# Altium schematic symbol library kmilo17pet-NSC_Amplifier.SchLib: 1665 symbols (part 2 of 44)
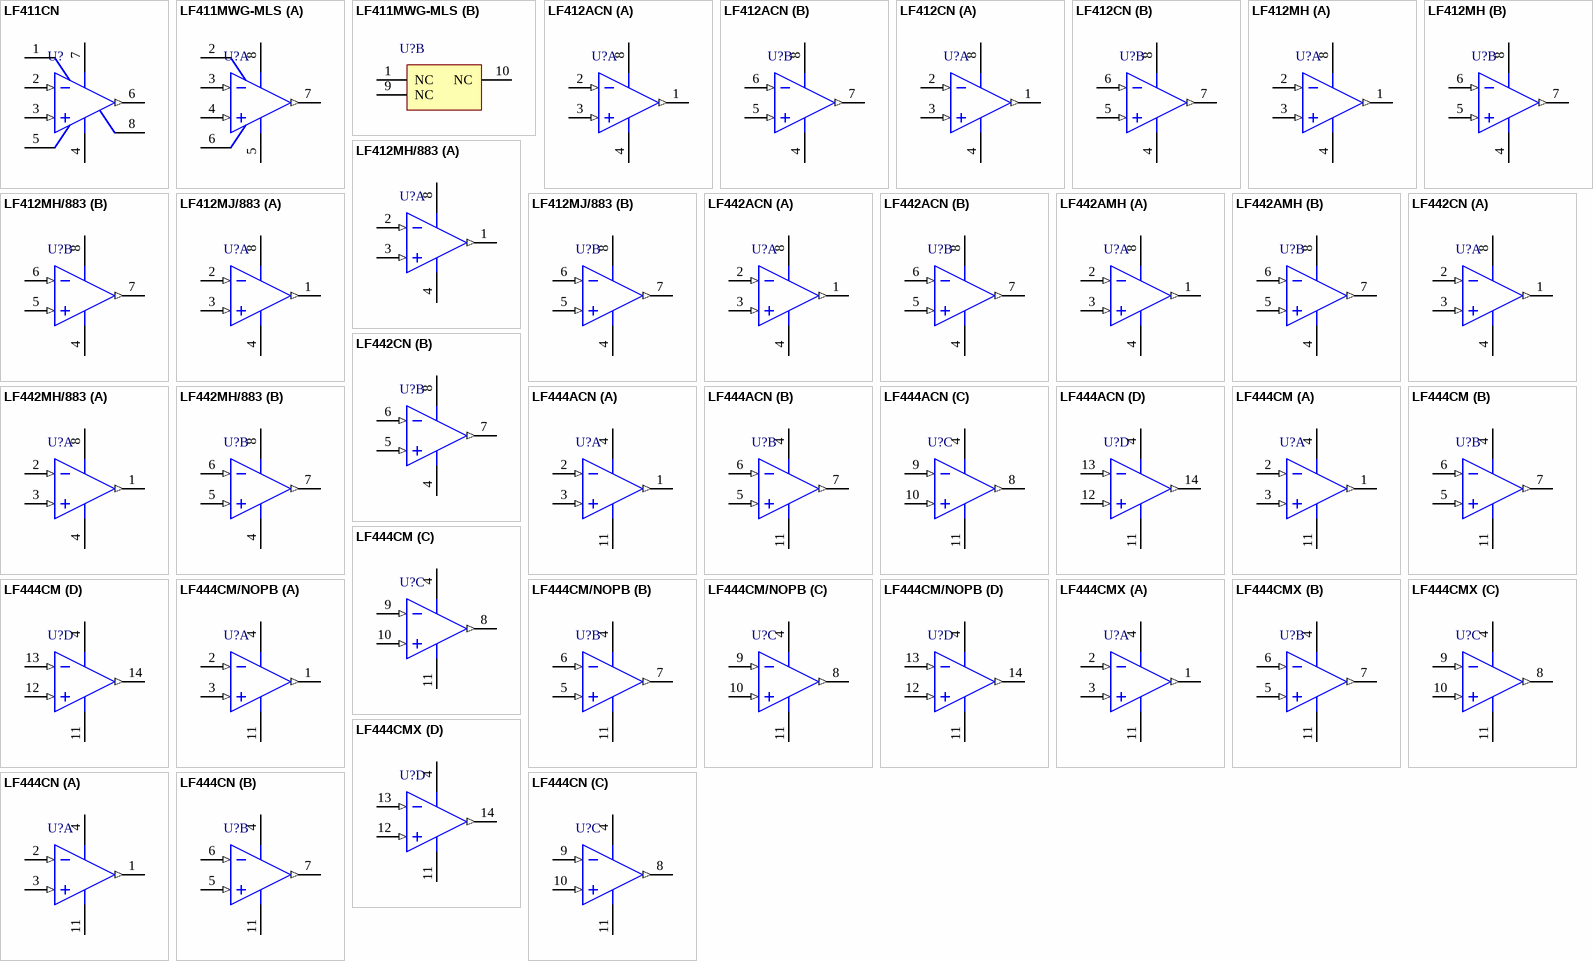
[diagram p85: symbols LF411CN to LF444CN]

## LF442ACN
designator U?
Dual Low Power JFET Input Operational Amplifier, 8-pin MDIP; PartNumber: LF442ACN; Manufacturer: National Semiconductor; PackageTopMarking: NSUZXYTTE#*LF*442ACN; PowerWise: N; CompType: Amplifiers; High-Reliability: Y; DatasheetVersion: Aug-2000; PackageVersion: revG, May-2006; PackageReference: N08E; PackageDescription: MDIP, .365 x .250 x .130in, 8 Lead, .100in Pitch; RoHS: N; PinCount: 8; Code_JEDEC: MS-001-BA; ComponentLink1Description: Manufacturer URL; ComponentLink1URL: http://www.national.com/; ComponentLink2Description: LF442 Datasheet; ComponentLink2URL: http://www.national.com/ds/LF/LF442.pdf; ComponentLink3Description: LF442 Web Page; ComponentLink3URL: http://www.national.com/pf/LF/LF442.html; ComponentLink4Description: N08E Package Page; ComponentLink4URL: http://www.national.com/packaging/folders/n08e.html
footprint N08E (DIP, 8-Leads, Row Spacing 7.62mm, Pitch 2.54mm, Body 9.91x6.35mm)
pins on every part: 4 V- (power), 8 V+ (power)
part A pins: 1 OUTA (out), 2 INA- (in), 3 INA+ (in)
part B pins: 5 INB+ (in), 6 INB- (in), 7 OUTB (out)

## LF442AMH
designator U?
Dual Low Power JFET Input Operational Amplifier, 8-pin TO-99; PartNumber: LF442AMH; Manufacturer: National Semiconductor; PackageTopMarking: NSZXYTTE# LF442AMH; PowerWise: N; CompType: Amplifiers; High-Reliability: Y; DatasheetVersion: Aug-2000; PackageVersion: revF, Jun-1995; PackageReference: H08C; PackageDescription: Metal Can, TO-99, 8 Lead, .200 Dia., P.C.; RoHS: N; PinCount: 8; Code_JEDEC: TO-99; ComponentLink1Description: Manufacturer URL; ComponentLink1URL: http://www.national.com/; ComponentLink2Description: LF442 Datasheet; ComponentLink2URL: http://www.national.com/ds/LF/LF442.pdf; ComponentLink3Description: LF442 Web Page; ComponentLink3URL: http://www.national.com/pf/LF/LF442.html; ComponentLink4Description: H08C Package Page; ComponentLink4URL: http://www.national.com/packaging/folders/h08c.html
footprint H08C (Can; 8 Leads; Pin Circle Dia. 5.08 mm; Lead Dia. 0.48 mm (max))
pins on every part: 4 V- (power), 8 V+ (power)
part A pins: 1 OUTA (out), 2 INA- (in), 3 INA+ (in)
part B pins: 5 INB+ (in), 6 INB- (in), 7 OUTB (out)

## LF442CN
designator U?
Dual Low Power JFET Input Operational Amplifier, 8-pin MDIP; PartNumber: LF442CN; Manufacturer: National Semiconductor; PackageTopMarking: NSUZXYTTE#*LF*442CN; PowerWise: N; CompType: Amplifiers; High-Reliability: Y; DatasheetVersion: Aug-2000; PackageVersion: revG, May-2006; PackageReference: N08E; PackageDescription: MDIP, .365 x .250 x .130in, 8 Lead, .100in Pitch; RoHS: N; PinCount: 8; Code_JEDEC: MS-001-BA; ComponentLink1Description: Manufacturer URL; ComponentLink1URL: http://www.national.com/; ComponentLink2Description: LF442 Datasheet; ComponentLink2URL: http://www.national.com/ds/LF/LF442.pdf; ComponentLink3Description: LF442 Web Page; ComponentLink3URL: http://www.national.com/pf/LF/LF442.html; ComponentLink4Description: N08E Package Page; ComponentLink4URL: http://www.national.com/packaging/folders/n08e.html
footprint N08E (DIP, 8-Leads, Row Spacing 7.62mm, Pitch 2.54mm, Body 9.91x6.35mm)
pins on every part: 4 V- (power), 8 V+ (power)
part A pins: 1 OUTA (out), 2 INA- (in), 3 INA+ (in)
part B pins: 5 INB+ (in), 6 INB- (in), 7 OUTB (out)

## LF442MH/883
designator U?
Dual Low Power JFET Input Operational Amplifier, 8-pin TO-99; PartNumber: LF442MH/883; Manufacturer: National Semiconductor; PackageTopMarking: NSZSSXXYYA LF442MH/883 Q*5962-9763301QGA; PowerWise: N; CompType: Amplifiers; High-Reliability: Y; DatasheetVersion: Aug-2000; PackageVersion: revF, Jun-1995; PackageReference: H08C; PackageDescription: Metal Can, TO-99, 8 Lead, .200 Dia., P.C.; RoHS: N; PinCount: 8; Code_JEDEC: TO-99; ComponentLink1Description: Manufacturer URL; ComponentLink1URL: http://www.national.com/; ComponentLink2Description: LF442 Datasheet; ComponentLink2URL: http://www.national.com/ds/LF/LF442QML.pdf; ComponentLink3Description: LF442 Web Page; ComponentLink3URL: http://www.national.com/pf/LF/LF442.html; ComponentLink4Description: H08C Package Page; ComponentLink4URL: http://www.national.com/packaging/folders/h08c.html
footprint H08C (Can; 8 Leads; Pin Circle Dia. 5.08 mm; Lead Dia. 0.48 mm (max))
pins on every part: 4 V- (power), 8 V+ (power)
part A pins: 1 OUTA (out), 2 INA- (in), 3 INA+ (in)
part B pins: 5 INB+ (in), 6 INB- (in), 7 OUTB (out)

## LF444ACN
designator U?
Quad Low Power JFET Input Operational Amplifier, 14-pin MDIP; PartNumber: LF444ACN; Manufacturer: National Semiconductor; PackageTopMarking: NSUZXYYTTE#*LF444ACN; PowerWise: N; CompType: Amplifiers; High-Reliability: Y; DatasheetVersion: Aug-2000; PackageVersion: revG, May-2006; PackageReference: N14A; PackageDescription: MDIP, .750 x .250 x.130in, 14 Lead, .100in Pitch; RoHS: N; PinCount: 14; Code_JEDEC: MS-001-AA; ComponentLink1Description: Manufacturer URL; ComponentLink1URL: http://www.national.com/; ComponentLink2Description: LF444 Datasheet; ComponentLink2URL: http://www.national.com/ds/LF/LF444.pdf; ComponentLink3Description: LF444 Web Page; ComponentLink3URL: http://www.national.com/pf/LF/LF444.html; ComponentLink4Description: N14A Package Page; ComponentLink4URL: http://www.national.com/packaging/folders/n14a.html
footprint N14A (DIP, 14-Leads, Row Spacing 7.62mm, Pitch 2.54mm, Body 19.56x6.35mm)
pins on every part: 4 V+ (power), 11 V- (power)
part A pins: 1 OUT1 (out), 2 IN1- (in), 3 IN1+ (in)
part B pins: 5 IN2+ (in), 6 IN2- (in), 7 OUT2 (out)
part C pins: 8 OUT3 (out), 9 IN3- (in), 10 IN3+ (in)
part D pins: 12 IN4+ (in), 13 IN4- (in), 14 OUT4 (out)

## LF444CM
designator U?
Quad Low Power JFET Input Operational Amplifier, 14-pin Narrow SOIC; PartNumber: LF444CM; Manufacturer: National Semiconductor; PackageTopMarking: NSUZXYTTE#*LF444CM; PowerWise: N; CompType: Amplifiers; High-Reliability: Y; DatasheetVersion: Aug-2000; PackageVersion: revJ, Jan-1996; PackageReference: M14A; PackageDescription: Molded Package S.O., .150in Wide, 14 Lead; RoHS: N; PinCount: 14; Code_JEDEC: MS-012AB; Code_IPC: SOIC127P600-14; ComponentLink1Description: Manufacturer URL; ComponentLink1URL: http://www.national.com/; ComponentLink2Description: LF444 Datasheet; ComponentLink2URL: http://www.national.com/ds/LF/LF444.pdf; ComponentLink3Description: LF444 Web Page; ComponentLink3URL: http://www.national.com/pf/LF/LF444.html; ComponentLink4Description: M14A Package Page; ComponentLink4URL: http://www.national.com/packaging/folders/m14a.html
footprint M14A_N (SOIC, 14-Leads, Body 8.6x3.9mm, Pitch 1.27mm, IPC Medium Density)
footprint M14A_L (SOIC, 14-Leads, Body 8.6x3.9mm, Pitch 1.27mm, IPC High Density)
footprint M14A_M (SOIC, 14-Leads, Body 8.6x3.9mm, Pitch 1.27mm, IPC Low Density)
pins on every part: 4 V+ (power), 11 V- (power)
part A pins: 1 OUT1 (out), 2 IN1- (in), 3 IN1+ (in)
part B pins: 5 IN2+ (in), 6 IN2- (in), 7 OUT2 (out)
part C pins: 8 OUT3 (out), 9 IN3- (in), 10 IN3+ (in)
part D pins: 12 IN4+ (in), 13 IN4- (in), 14 OUT4 (out)

## LF444CM/NOPB
designator U?
Quad Low Power JFET Input Operational Amplifier, 14-pin Narrow SOIC, Pb-Free; PartNumber: LF444CM/NOPB; Manufacturer: National Semiconductor; PackageTopMarking: NSUZXYTTE#*LF444CM; PowerWise: N; CompType: Amplifiers; High-Reliability: Y; DatasheetVersion: Aug-2000; PackageVersion: revJ, Jan-1996; PackageReference: M14A; PackageDescription: Molded Package S.O., .150in Wide, 14 Lead; RoHS: Y; PinCount: 14; Code_JEDEC: MS-012AB; Code_IPC: SOIC127P600-14; ComponentLink1Description: Manufacturer URL; ComponentLink1URL: http://www.national.com/; ComponentLink2Description: LF444 Datasheet; ComponentLink2URL: http://www.national.com/ds/LF/LF444.pdf; ComponentLink3Description: LF444 Web Page; ComponentLink3URL: http://www.national.com/pf/LF/LF444.html; ComponentLink4Description: M14A Package Page; ComponentLink4URL: http://www.national.com/packaging/folders/m14a.html
footprint M14A_N (SOIC, 14-Leads, Body 8.6x3.9mm, Pitch 1.27mm, IPC Medium Density)
footprint M14A_L (SOIC, 14-Leads, Body 8.6x3.9mm, Pitch 1.27mm, IPC High Density)
footprint M14A_M (SOIC, 14-Leads, Body 8.6x3.9mm, Pitch 1.27mm, IPC Low Density)
pins on every part: 4 V+ (power), 11 V- (power)
part A pins: 1 OUT1 (out), 2 IN1- (in), 3 IN1+ (in)
part B pins: 5 IN2+ (in), 6 IN2- (in), 7 OUT2 (out)
part C pins: 8 OUT3 (out), 9 IN3- (in), 10 IN3+ (in)
part D pins: 12 IN4+ (in), 13 IN4- (in), 14 OUT4 (out)

## LF444CMX
designator U?
Quad Low Power JFET Input Operational Amplifier, 14-pin Narrow SOIC; PartNumber: LF444CMX; Manufacturer: National Semiconductor; PackageTopMarking: NSUZXYTTE#*LF444CM; PowerWise: N; CompType: Amplifiers; High-Reliability: Y; DatasheetVersion: Aug-2000; PackageVersion: revJ, Jan-1996; PackageReference: M14A; PackageDescription: Molded Package S.O., .150in Wide, 14 Lead; RoHS: N; PinCount: 14; Code_JEDEC: MS-012AB; Code_IPC: SOIC127P600-14; ComponentLink1Description: Manufacturer URL; ComponentLink1URL: http://www.national.com/; ComponentLink2Description: LF444 Datasheet; ComponentLink2URL: http://www.national.com/ds/LF/LF444.pdf; ComponentLink3Description: LF444 Web Page; ComponentLink3URL: http://www.national.com/pf/LF/LF444.html; ComponentLink4Description: M14A Package Page; ComponentLink4URL: http://www.national.com/packaging/folders/m14a.html
footprint M14A_N (SOIC, 14-Leads, Body 8.6x3.9mm, Pitch 1.27mm, IPC Medium Density)
footprint M14A_L (SOIC, 14-Leads, Body 8.6x3.9mm, Pitch 1.27mm, IPC High Density)
footprint M14A_M (SOIC, 14-Leads, Body 8.6x3.9mm, Pitch 1.27mm, IPC Low Density)
pins on every part: 4 V+ (power), 11 V- (power)
part A pins: 1 OUT1 (out), 2 IN1- (in), 3 IN1+ (in)
part B pins: 5 IN2+ (in), 6 IN2- (in), 7 OUT2 (out)
part C pins: 8 OUT3 (out), 9 IN3- (in), 10 IN3+ (in)
part D pins: 12 IN4+ (in), 13 IN4- (in), 14 OUT4 (out)

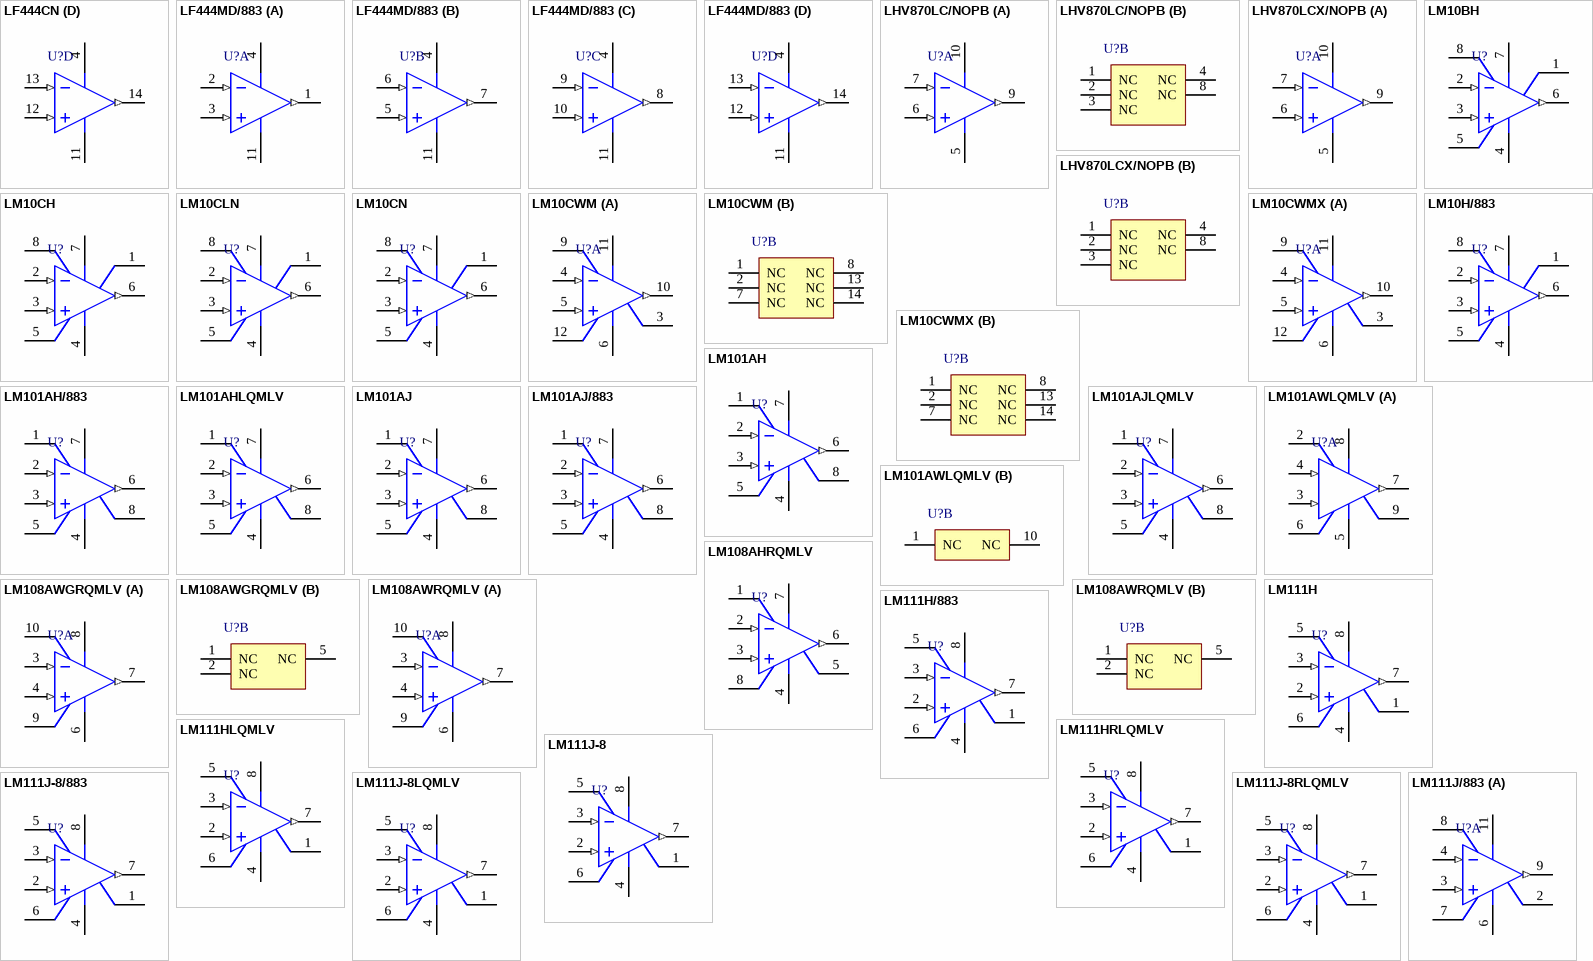
[diagram p3: symbols LF444CN to LM111J/883]

## LF444CN
designator U?
Quad Low Power JFET Input Operational Amplifier, 14-pin MDIP; PartNumber: LF444CN; Manufacturer: National Semiconductor; PackageTopMarking: NSUZXYYTTE#*LF444CN; PowerWise: N; CompType: Amplifiers; High-Reliability: Y; DatasheetVersion: Aug-2000; PackageVersion: revG, May-2006; PackageReference: N14A; PackageDescription: MDIP, .750 x .250 x.130in, 14 Lead, .100in Pitch; RoHS: N; PinCount: 14; Code_JEDEC: MS-001-AA; ComponentLink1Description: Manufacturer URL; ComponentLink1URL: http://www.national.com/; ComponentLink2Description: LF444 Datasheet; ComponentLink2URL: http://www.national.com/ds/LF/LF444.pdf; ComponentLink3Description: LF444 Web Page; ComponentLink3URL: http://www.national.com/pf/LF/LF444.html; ComponentLink4Description: N14A Package Page; ComponentLink4URL: http://www.national.com/packaging/folders/n14a.html
footprint N14A (DIP, 14-Leads, Row Spacing 7.62mm, Pitch 2.54mm, Body 19.56x6.35mm)
pins on every part: 4 V+ (power), 11 V- (power)
part A pins: 1 OUT1 (out), 2 IN1- (in), 3 IN1+ (in)
part B pins: 5 IN2+ (in), 6 IN2- (in), 7 OUT2 (out)
part C pins: 8 OUT3 (out), 9 IN3- (in), 10 IN3+ (in)
part D pins: 12 IN4+ (in), 13 IN4- (in), 14 OUT4 (out)

## LF444MD/883
designator U?
Quad Low Power JFET Input Operational Amplifier, 14-pin Sidebraze; PartNumber: LF444MD/883; Manufacturer: National Semiconductor; PackageTopMarking: NSZSSXXYYA*LF444MD*/883 Q; PowerWise: N; CompType: Amplifiers; High-Reliability: Y; DatasheetVersion: Aug-2000; PackageVersion: revJ, Jun-1994; PackageReference: D14D; PackageDescription: Dip, Sidebrazed Ceramic, 14 Lead; RoHS: N; PinCount: 14; ComponentLink1Description: Manufacturer URL; ComponentLink1URL: http://www.national.com/; ComponentLink2Description: LF444 Datasheet; ComponentLink2URL: http://www.national.com/ds/LF/LF444QML.pdf; ComponentLink3Description: LF444 Web Page; ComponentLink3URL: http://www.national.com/pf/LF/LF444.html; ComponentLink4Description: D14D Package Page; ComponentLink4URL: http://www.national.com/packaging/folders/d14d.html
footprint D14D (DIP, 14-Leads, Row Spacing 7.62mm, Pitch 2.54mm, Body 17.78x7.3mm)
pins on every part: 4 V+ (power), 11 V- (power)
part A pins: 1 OUT1 (out), 2 IN1- (in), 3 IN1+ (in)
part B pins: 5 IN2+ (in), 6 IN2- (in), 7 OUT2 (out)
part C pins: 8 OUT3 (out), 9 IN3- (in), 10 IN3+ (in)
part D pins: 12 IN4+ (in), 13 IN4- (in), 14 OUT4 (out)

## LHV870LC/NOPB
designator U?
44V Single High Performance, High Voltage Operational Amplifier, 10-pin LLP COL; PartNumber: LHV870LC/NOPB; Manufacturer: National Semiconductor; PackageTopMarking: XYTT*ZD1; PowerWise: N; CompType: Amplifiers; High-Reliability: Y; DatasheetVersion: May-2011; PackageVersion: revA, Aug-2010; PackageReference: LCB10A; PackageDescription: LLP COL, 2.6 x 2.6 x 0.6 mm Body, 10 Lead, 0.5mm Pitch, No Pullback; RoHS: Y; PinCount: 10; ComponentLink1Description: Manufacturer URL; ComponentLink1URL: http://www.national.com/; ComponentLink2Description: LHV870 Datasheet; ComponentLink2URL: http://www.national.com/ds/LH/LHV870.pdf; ComponentLink3Description: LHV870 Web Page; ComponentLink3URL: http://www.national.com/pf/LH/LHV870.html; ComponentLink4Description: LCB10A Package Page; ComponentLink4URL: http://www.national.com/packaging/folders/lcb10a.html
footprint LCB10A (SON, 10-Leads, Body 2.6x2.6mm, Pitch 0.5mm, NSC Recommended)
part A pins: 5 V- (power), 6 IN+ (in), 7 IN- (in), 9 OUT (out), 10 V+ (power)
part B pins: 1 NC, 2 NC, 3 NC, 4 NC, 8 NC

## LHV870LCX/NOPB
designator U?
44V Single High Performance, High Voltage Operational Amplifier, 10-pin LLP COL; PartNumber: LHV870LCX/NOPB; Manufacturer: National Semiconductor; PackageTopMarking: XYTT*ZD1; PowerWise: N; CompType: Amplifiers; High-Reliability: Y; DatasheetVersion: May-2011; PackageVersion: revA, Aug-2010; PackageReference: LCB10A; PackageDescription: LLP COL, 2.6 x 2.6 x 0.6 mm Body, 10 Lead, 0.5mm Pitch, No Pullback; RoHS: Y; PinCount: 10; ComponentLink1Description: Manufacturer URL; ComponentLink1URL: http://www.national.com/; ComponentLink2Description: LHV870 Datasheet; ComponentLink2URL: http://www.national.com/ds/LH/LHV870.pdf; ComponentLink3Description: LHV870 Web Page; ComponentLink3URL: http://www.national.com/pf/LH/LHV870.html; ComponentLink4Description: LCB10A Package Page; ComponentLink4URL: http://www.national.com/packaging/folders/lcb10a.html
footprint LCB10A (SON, 10-Leads, Body 2.6x2.6mm, Pitch 0.5mm, NSC Recommended)
part A pins: 5 V- (power), 6 IN+ (in), 7 IN- (in), 9 OUT (out), 10 V+ (power)
part B pins: 1 NC, 2 NC, 3 NC, 4 NC, 8 NC

## LM10BH
designator U?
Operational Amplifier and Voltage Reference, 8-pin TO-5; PartNumber: LM10BH; Manufacturer: National Semiconductor; PackageTopMarking: NSZXYTTE# LM10BH; PowerWise: N; CompType: Amplifiers; High-Reliability: Y; DatasheetVersion: Aug-2000; PackageVersion: revC, Sep-1988; PackageReference: H08A; PackageDescription: 8 Lead, .230in Dia., P.C. Metal Can Package (H); RoHS: N; PinCount: 8; ComponentLink1Description: Manufacturer URL; ComponentLink1URL: http://www.national.com/; ComponentLink2Description: LM10 Datasheet; ComponentLink2URL: http://www.national.com/ds/LM/LM10.pdf; ComponentLink3Description: LM10 Web Page; ComponentLink3URL: http://www.national.com/pf/LM/LM10.html; ComponentLink4Description: H08A Package Page; ComponentLink4URL: http://www.national.com/packaging/folders/h08a.html
footprint H08A (Can; 8 Leads; Pin Circle Dia. 5.84 mm; Lead Dia. 0.48 mm (max))
pins: 1 REF OUT, 2 IN- (in), 3 IN+ (in), 4 V- (power), 5 BAL, 6 OUT (out), 7 V+ (power), 8 REF FB

## LM10CH
designator U?
Operational Amplifier and Voltage Reference, 8-pin TO-5; PartNumber: LM10CH; Manufacturer: National Semiconductor; PackageTopMarking: NSZXYTTE# LM10CH; PowerWise: N; CompType: Amplifiers; High-Reliability: Y; DatasheetVersion: Aug-2000; PackageVersion: revC, Sep-1988; PackageReference: H08A; PackageDescription: 8 Lead, .230in Dia., P.C. Metal Can Package (H); RoHS: N; PinCount: 8; ComponentLink1Description: Manufacturer URL; ComponentLink1URL: http://www.national.com/; ComponentLink2Description: LM10 Datasheet; ComponentLink2URL: http://www.national.com/ds/LM/LM10.pdf; ComponentLink3Description: LM10 Web Page; ComponentLink3URL: http://www.national.com/pf/LM/LM10.html; ComponentLink4Description: H08A Package Page; ComponentLink4URL: http://www.national.com/packaging/folders/h08a.html
footprint H08A (Can; 8 Leads; Pin Circle Dia. 5.84 mm; Lead Dia. 0.48 mm (max))
pins: 1 REF OUT, 2 IN- (in), 3 IN+ (in), 4 V- (power), 5 BAL, 6 OUT (out), 7 V+ (power), 8 REF FB

## LM10CLN
designator U?
Operational Amplifier and Voltage Reference, 8-pin MDIP; PartNumber: LM10CLN; Manufacturer: National Semiconductor; PackageTopMarking: NSUZXYTTE#*LM10CLN; PowerWise: N; CompType: Amplifiers; High-Reliability: Y; DatasheetVersion: Aug-2000; PackageVersion: revG, May-2006; PackageReference: N08E; PackageDescription: MDIP, .365 x .250 x .130in, 8 Lead, .100in Pitch; RoHS: N; PinCount: 8; Code_JEDEC: MS-001-BA; ComponentLink1Description: Manufacturer URL; ComponentLink1URL: http://www.national.com/; ComponentLink2Description: LM10 Datasheet; ComponentLink2URL: http://www.national.com/ds/LM/LM10.pdf; ComponentLink3Description: LM10 Web Page; ComponentLink3URL: http://www.national.com/pf/LM/LM10.html; ComponentLink4Description: N08E Package Page; ComponentLink4URL: http://www.national.com/packaging/folders/n08e.html
footprint N08E (DIP, 8-Leads, Row Spacing 7.62mm, Pitch 2.54mm, Body 9.91x6.35mm)
pins: 1 REF OUT, 2 IN- (in), 3 IN+ (in), 4 V- (power), 5 BAL, 6 OUT (out), 7 V+ (power), 8 REF FB

## LM10CN
designator U?
Operational Amplifier and Voltage Reference, 8-pin MDIP; PartNumber: LM10CN; Manufacturer: National Semiconductor; PackageTopMarking: NSUZXYTTE#*LM*10CN; PowerWise: N; CompType: Amplifiers; High-Reliability: Y; DatasheetVersion: Aug-2000; PackageVersion: revG, May-2006; PackageReference: N08E; PackageDescription: MDIP, .365 x .250 x .130in, 8 Lead, .100in Pitch; RoHS: N; PinCount: 8; Code_JEDEC: MS-001-BA; ComponentLink1Description: Manufacturer URL; ComponentLink1URL: http://www.national.com/; ComponentLink2Description: LM10 Datasheet; ComponentLink2URL: http://www.national.com/ds/LM/LM10.pdf; ComponentLink3Description: LM10 Web Page; ComponentLink3URL: http://www.national.com/pf/LM/LM10.html; ComponentLink4Description: N08E Package Page; ComponentLink4URL: http://www.national.com/packaging/folders/n08e.html
footprint N08E (DIP, 8-Leads, Row Spacing 7.62mm, Pitch 2.54mm, Body 9.91x6.35mm)
pins: 1 REF OUT, 2 IN- (in), 3 IN+ (in), 4 V- (power), 5 BAL, 6 OUT (out), 7 V+ (power), 8 REF FB

## LM10CWM
designator U?
Operational Amplifier and Voltage Reference, 14-pin Wide SOIC; PartNumber: LM10CWM; Manufacturer: National Semiconductor; PackageTopMarking: NSUZXYTTE#*LM10CWM; PowerWise: N; CompType: Amplifiers; High-Reliability: Y; DatasheetVersion: Aug-2000; PackageVersion: revD, Feb-1987; PackageReference: M14B; PackageDescription: Molded Package, S.O., .300in Wide, 14 Lead; RoHS: N; PinCount: 14; Code_JEDEC: MS-013-AF; Code_IPC: SOIC127P1030-14; ComponentLink1Description: Manufacturer URL; ComponentLink1URL: http://www.national.com/; ComponentLink2Description: LM10 Datasheet; ComponentLink2URL: http://www.national.com/ds/LM/LM10.pdf; ComponentLink3Description: LM10 Web Page; ComponentLink3URL: http://www.national.com/pf/LM/LM10.html; ComponentLink4Description: M14B Package Page; ComponentLink4URL: http://www.national.com/packaging/folders/m14b.html
footprint M14B_N (SOIC, 14-Leads, Body 9x7.5mm, Pitch 1.27mm, IPC Medium Density)
footprint M14B_L (SOIC, 14-Leads, Body 9x7.5mm, Pitch 1.27mm, IPC High Density)
footprint M14B_M (SOIC, 14-Leads, Body 9x7.5mm, Pitch 1.27mm, IPC Low Density)
part A pins: 3 REF OUT, 4 IN- (in), 5 IN+ (in), 6 V- (power), 9 BAL, 10 OUT (out), 11 V+ (power), 12 REF FB
part B pins: 1 NC, 2 NC, 7 NC, 8 NC, 13 NC, 14 NC

## LM10CWMX
designator U?
Operational Amplifier and Voltage Reference, 14-pin Wide SOIC; PartNumber: LM10CWMX; Manufacturer: National Semiconductor; PackageTopMarking: NSUZXYTTE#*LM10CWM; PowerWise: N; CompType: Amplifiers; High-Reliability: Y; DatasheetVersion: Aug-2000; PackageVersion: revD, Feb-1987; PackageReference: M14B; PackageDescription: Molded Package, S.O., .300in Wide, 14 Lead; RoHS: N; PinCount: 14; Code_JEDEC: MS-013-AF; Code_IPC: SOIC127P1030-14; ComponentLink1Description: Manufacturer URL; ComponentLink1URL: http://www.national.com/; ComponentLink2Description: LM10 Datasheet; ComponentLink2URL: http://www.national.com/ds/LM/LM10.pdf; ComponentLink3Description: LM10 Web Page; ComponentLink3URL: http://www.national.com/pf/LM/LM10.html; ComponentLink4Description: M14B Package Page; ComponentLink4URL: http://www.national.com/packaging/folders/m14b.html
footprint M14B_N (SOIC, 14-Leads, Body 9x7.5mm, Pitch 1.27mm, IPC Medium Density)
footprint M14B_L (SOIC, 14-Leads, Body 9x7.5mm, Pitch 1.27mm, IPC High Density)
footprint M14B_M (SOIC, 14-Leads, Body 9x7.5mm, Pitch 1.27mm, IPC Low Density)
part A pins: 3 REF OUT, 4 IN- (in), 5 IN+ (in), 6 V- (power), 9 BAL, 10 OUT (out), 11 V+ (power), 12 REF FB
part B pins: 1 NC, 2 NC, 7 NC, 8 NC, 13 NC, 14 NC

## LM10H/883
designator U?
Operational Amplifier and Voltage Reference, 8-pin TO-5; PartNumber: LM10H/883; Manufacturer: National Semiconductor; PackageTopMarking: NS ZSSXXYYA LM10H/883 Q*5962-8760401GA; PowerWise: N; CompType: Amplifiers; High-Reliability: Y; DatasheetVersion: Aug-2000; PackageVersion: revC, Sep-1988; PackageReference: H08A; PackageDescription: 8 Lead, .230in Dia., P.C. Metal Can Package (H); RoHS: N; PinCount: 8; ComponentLink1Description: Manufacturer URL; ComponentLink1URL: http://www.national.com/; ComponentLink2Description: LM10 Datasheet; ComponentLink2URL: http://www.national.com/ds/LM/LM10QML.pdf; ComponentLink3Description: LM10 Web Page; ComponentLink3URL: http://www.national.com/pf/LM/LM10.html; ComponentLink4Description: H08A Package Page; ComponentLink4URL: http://www.national.com/packaging/folders/h08a.html
footprint H08A (Can; 8 Leads; Pin Circle Dia. 5.84 mm; Lead Dia. 0.48 mm (max))
pins: 1 REF OUT, 2 IN- (in), 3 IN+ (in), 4 V- (power), 5 BAL, 6 OUT (out), 7 V+ (power), 8 REF FB

## LM101AH
designator U?
Operational Amplifier, 8-pin TO-99; PartNumber: LM101AH; Manufacturer: National Semiconductor; PackageTopMarking: NSZXYTTE# LM101AH; PowerWise: N; CompType: Amplifiers; High-Reliability: Y; DatasheetVersion: Aug-2000; PackageVersion: revF, Jun-1995; PackageReference: H08C; PackageDescription: Metal Can, TO-99, 8 Lead, .200 Dia., P.C.; RoHS: N; PinCount: 8; Code_JEDEC: TO-99; ComponentLink1Description: Manufacturer URL; ComponentLink1URL: http://www.national.com/; ComponentLink2Description: LM101A Datasheet; ComponentLink2URL: http://www.national.com/ds/LM/LM101A.pdf; ComponentLink3Description: LM101A Web Page; ComponentLink3URL: http://www.national.com/pf/LM/LM101A.html; ComponentLink4Description: H08C Package Page; ComponentLink4URL: http://www.national.com/packaging/folders/h08c.html
footprint H08C (Can; 8 Leads; Pin Circle Dia. 5.08 mm; Lead Dia. 0.48 mm (max))
pins: 1 BAL/COMP, 2 IN- (in), 3 IN+ (in), 4 V- (power), 5 BAL, 6 OUT (out), 7 V+ (power), 8 COMP

## LM101AH/883
designator U?
Operational Amplifier, 8-pin TO-99; PartNumber: LM101A; Manufacturer: National Semiconductor; PackageTopMarking: NSZSSXXYYA LM101AH/883 Q; PowerWise: N; CompType: Amplifiers; High-Reliability: Y; DatasheetVersion: Aug-2000; PackageVersion: revF, Jun-1995; PackageReference: H08C; PackageDescription: Metal Can, TO-99, 8 Lead, .200 Dia., P.C.; RoHS: N; PinCount: 8; Code_JEDEC: TO-99; ComponentLink1Description: Manufacturer URL; ComponentLink1URL: http://www.national.com/; ComponentLink2Description: LM101A Datasheet; ComponentLink2URL: http://www.national.com/ds/LM/LM101AQML.pdf; ComponentLink3Description: LM101A Web Page; ComponentLink3URL: http://www.national.com/pf/LM/LM101A.html; ComponentLink4Description: H08C Package Page; ComponentLink4URL: http://www.national.com/packaging/folders/h08c.html
footprint H08C (Can; 8 Leads; Pin Circle Dia. 5.08 mm; Lead Dia. 0.48 mm (max))
pins: 1 BAL/COMP, 2 IN- (in), 3 IN+ (in), 4 V- (power), 5 BAL, 6 OUT (out), 7 V+ (power), 8 COMP

## LM101AHLQMLV
designator U?
Operational Amplifier, 8-pin TO-99; PartNumber: LM101AHLQMLV; Manufacturer: National Semiconductor; PackageTopMarking: NSZSSXXYYA LM101AHLQMLV*5962L9951501VGA Q; PowerWise: N; CompType: Amplifiers; High-Reliability: Y; DatasheetVersion: Aug-2000; PackageVersion: revF, Jun-1995; PackageReference: H08C; PackageDescription: Metal Can, TO-99, 8 Lead, .200 Dia., P.C.; RoHS: N; PinCount: 8; Code_JEDEC: TO-99; ComponentLink1Description: Manufacturer URL; ComponentLink1URL: http://www.national.com/; ComponentLink2Description: LM101A Datasheet; ComponentLink2URL: http://www.national.com/ds/LM/LM101AQML.pdf; ComponentLink3Description: LM101A Web Page; ComponentLink3URL: http://www.national.com/pf/LM/LM101A.html; ComponentLink4Description: H08C Package Page; ComponentLink4URL: http://www.national.com/packaging/folders/h08c.html
footprint H08C (Can; 8 Leads; Pin Circle Dia. 5.08 mm; Lead Dia. 0.48 mm (max))
pins: 1 BAL/COMP, 2 IN- (in), 3 IN+ (in), 4 V- (power), 5 BAL, 6 OUT (out), 7 V+ (power), 8 COMP

## LM101AJ
designator U?
Operational Amplifier, 8-pin CerDIP; PartNumber: LM101AJ; Manufacturer: National Semiconductor; PackageTopMarking: NSUZXYTT*LM101AJ; PowerWise: N; CompType: Amplifiers; High-Reliability: Y; DatasheetVersion: Aug-2000; PackageVersion: revM, Jul-2002; PackageReference: J08A; PackageDescription: Cerdip, .400 x .310in Body, 8 Lead, .300in Centers, .100in Pitch; RoHS: N; PinCount: 8; ComponentLink1Description: Manufacturer URL; ComponentLink1URL: http://www.national.com/; ComponentLink2Description: LM101A Datasheet; ComponentLink2URL: http://www.national.com/ds/LM/LM101A.pdf; ComponentLink3Description: LM101A Web Page; ComponentLink3URL: http://www.national.com/pf/LM/LM101A.html; ComponentLink4Description: J08A Package Page; ComponentLink4URL: http://www.national.com/packaging/folders/j08a.html
footprint J08A (DIP, 8-Leads, Row Spacing 7.62mm, Pitch 2.54mm, Body 9.78x6.73mm)
pins: 1 BAL/COMP, 2 IN- (in), 3 IN+ (in), 4 V- (power), 5 BAL, 6 OUT (out), 7 V+ (power), 8 COMP

## LM101AJ/883
designator U?
Operational Amplifier, 8-pin CerDIP; PartNumber: LM101AJ/883; Manufacturer: National Semiconductor; PackageTopMarking: NSZSSXXYYA*LM101AJ/*883 Q; PowerWise: N; CompType: Amplifiers; High-Reliability: Y; DatasheetVersion: Aug-2000; PackageVersion: revM, Jul-2002; PackageReference: J08A; PackageDescription: Cerdip, .400 x .310in Body, 8 Lead, .300in Centers, .100in Pitch; RoHS: N; PinCount: 8; ComponentLink1Description: Manufacturer URL; ComponentLink1URL: http://www.national.com/; ComponentLink2Description: LM101A Datasheet; ComponentLink2URL: http://www.national.com/ds/LM/LM101AQML.pdf; ComponentLink3Description: LM101A Web Page; ComponentLink3URL: http://www.national.com/pf/LM/LM101A.html; ComponentLink4Description: J08A Package Page; ComponentLink4URL: http://www.national.com/packaging/folders/j08a.html
footprint J08A (DIP, 8-Leads, Row Spacing 7.62mm, Pitch 2.54mm, Body 9.78x6.73mm)
pins: 1 BAL/COMP, 2 IN- (in), 3 IN+ (in), 4 V- (power), 5 BAL, 6 OUT (out), 7 V+ (power), 8 COMP

## LM101AJLQMLV
designator U?
Operational Amplifier, 8-pin CerDIP; PartNumber: LM101AJLQMLV; Manufacturer: National Semiconductor; PackageTopMarking: NSZSSXXYYA*LM101AJL*QV Q 5962L*9951501VPA; PowerWise: N; CompType: Amplifiers; High-Reliability: Y; DatasheetVersion: Aug-2000; PackageVersion: revM, Jul-2002; PackageReference: J08A; PackageDescription: Cerdip, .400 x .310in Body, 8 Lead, .300in Centers, .100in Pitch; RoHS: N; PinCount: 8; ComponentLink1Description: Manufacturer URL; ComponentLink1URL: http://www.national.com/; ComponentLink2Description: LM101A Datasheet; ComponentLink2URL: http://www.national.com/ds/LM/LM101A.pdf; ComponentLink3Description: LM101A Web Page; ComponentLink3URL: http://www.national.com/pf/LM/LM101A.html; ComponentLink4Description: J08A Package Page; ComponentLink4URL: http://www.national.com/packaging/folders/j08a.html
footprint J08A (DIP, 8-Leads, Row Spacing 7.62mm, Pitch 2.54mm, Body 9.78x6.73mm)
pins: 1 BAL/COMP, 2 IN- (in), 3 IN+ (in), 4 V- (power), 5 BAL, 6 OUT (out), 7 V+ (power), 8 COMP

## LM101AWLQMLV
designator U?
Operational Amplifier, 10-pin CerPACK; PartNumber: LM101AWLQMLV; Manufacturer: National Semiconductor; PackageTopMarking: NS L99515*01VHA*LM101AW*LQV Q*ZSSXXYYA; PowerWise: N; CompType: Amplifiers; High-Reliability: Y; DatasheetVersion: Aug-2000; PackageVersion: revH, Sep-2003; PackageReference: W10A; PackageDescription: Cerpack, .270 x .241 x .067in Body, 10 Lead, .050in Pitch; RoHS: N; PinCount: 10; Code_JEDEC: MS-033-AA; ComponentLink1Description: Manufacturer URL; ComponentLink1URL: http://www.national.com/; ComponentLink2Description: LM101A Datasheet; ComponentLink2URL: http://www.national.com/ds/LM/LM101AQML.pdf; ComponentLink3Description: LM101A Web Page; ComponentLink3URL: http://www.national.com/pf/LM/LM101A.html; ComponentLink4Description: W10A Package Page; ComponentLink4URL: http://www.national.com/packaging/folders/w10a.html
footprint W10A (DFP; 10 Leads; Body 6.9 x 6.9 mm (LxW max); Pitch 1.27 mm)
part A pins: 2 BAL, 3 IN (in), 4 IN (in), 5 V- (power), 6 BAL, 7 OUT (out), 8 V+ (power), 9 COMP
part B pins: 1 NC, 10 NC

## LM108AHRQMLV
designator U?
Prescision Operational Amplifier, 8-pin TO-99; PartNumber: LM108AHRQMLV; Manufacturer: National Semiconductor; PackageTopMarking: NSZSSXXYYA LM108AHRQV Q*5962R9863702VGA; PowerWise: N; CompType: Amplifiers; High-Reliability: Y; DatasheetVersion: Dec-2005; PackageVersion: revF, Jun-1995; PackageReference: H08C; PackageDescription: Metal Can, TO-99, 8 Lead, .200 Dia., P.C.; RoHS: N; PinCount: 8; Code_JEDEC: TO-99; ComponentLink1Description: Manufacturer URL; ComponentLink1URL: http://www.national.com/; ComponentLink2Description: LM108A Datasheet; ComponentLink2URL: http://www.national.com/ds/LM/LM108AQML.pdf; ComponentLink3Description: LM108A Web Page; ComponentLink3URL: http://www.national.com/pf/LM/LM108A.html; ComponentLink4Description: H08C Package Page; ComponentLink4URL: http://www.national.com/packaging/folders/h08c.html
footprint H08C (Can; 8 Leads; Pin Circle Dia. 5.08 mm; Lead Dia. 0.48 mm (max))
pins: 1 COMP1, 2 IN- (in), 3 IN+ (in), 4 V- (power), 5 NC, 6 OUT (out), 7 V+ (power), 8 COMP2

## LM108AWGRQMLV
designator U?
Prescision Operational Amplifier, 10-pin CerPACK; PartNumber: LM108AWGRQMLV; Manufacturer: National Semiconductor; PackageTopMarking: NS R98637*02VZA Q*LM108AWG*RQMLV*ZSSXXYYA; PowerWise: N; CompType: Amplifiers; High-Reliability: Y; DatasheetVersion: Dec-2005; PackageVersion: revF, Oct-2008; PackageReference: WG10A; PackageDescription: Cerpack, .270 x .241 x .070in, 10 Lead, .050in Pitch, Gull Wing; RoHS: N; PinCount: 10; ComponentLink1Description: Manufacturer URL; ComponentLink1URL: http://www.national.com/; ComponentLink2Description: LM108A Datasheet; ComponentLink2URL: http://www.national.com/ds/LM/LM108AQML.pdf; ComponentLink3Description: LM108A Web Page; ComponentLink3URL: http://www.national.com/pf/LM/LM108A.html; ComponentLink4Description: WG10A Package Page; ComponentLink4URL: http://www.national.com/packaging/folders/wg10a.html
footprint WG10A_N (CERPACK, 10-Leads, Body 6.9x6.3mm, Pitch 1.27mm, IPC Medium Density)
footprint WG10A_L (CERPACK, 10-Leads, Body 6.9x6.3mm, Pitch 1.27mm, IPC High Density)
footprint WG10A_M (CERPACK, 10-Leads, Body 6.9x6.3mm, Pitch 1.27mm, IPC Low Density)
part A pins: 3 IN- (in), 4 IN+ (in), 6 V- (power), 7 OUT (out), 8 V+ (power), 9 COMP2, 10 COMP1
part B pins: 1 NC, 2 NC, 5 NC

## LM108AWRQMLV
designator U?
Prescision Operational Amplifier, 10-pin CerPACK; PartNumber: LM108AWRQMLV; Manufacturer: National Semiconductor; PackageTopMarking: NS R98637*02VHA Q*LM108AW*RQMLV*ZSSXXYYA; PowerWise: N; CompType: Amplifiers; High-Reliability: Y; DatasheetVersion: Dec-2005; PackageVersion: revH, Sep-2003; PackageReference: W10A; PackageDescription: Cerpack, .270 x .241 x .067in Body, 10 Lead, .050in Pitch; RoHS: N; PinCount: 10; Code_JEDEC: MS-033-AA; ComponentLink1Description: Manufacturer URL; ComponentLink1URL: http://www.national.com/; ComponentLink2Description: LM108A Datasheet; ComponentLink2URL: http://www.national.com/ds/LM/LM108AQML.pdf; ComponentLink3Description: LM108A Web Page; ComponentLink3URL: http://www.national.com/pf/LM/LM108A.html; ComponentLink4Description: W10A Package Page; ComponentLink4URL: http://www.national.com/packaging/folders/w10a.html
footprint W10A (DFP; 10 Leads; Body 6.9 x 6.9 mm (LxW max); Pitch 1.27 mm)
part A pins: 3 IN- (in), 4 IN+ (in), 6 V- (power), 7 OUT (out), 8 V+ (power), 9 COMP2, 10 COMP1
part B pins: 1 NC, 2 NC, 5 NC

## LM111H
designator U?
Voltage Comparator, 8-pin TO-99; PartNumber: LM111H; Manufacturer: National Semiconductor; PackageTopMarking: NSZXYTTE# LM111H; PowerWise: N; CompType: Amplifiers; High-Reliability: Y; DatasheetVersion: Jan-2001; PackageVersion: revF, Jun-1995; PackageReference: H08C; PackageDescription: Metal Can, TO-99, 8 Lead, .200 Dia., P.C.; RoHS: N; PinCount: 8; Code_JEDEC: TO-99; ComponentLink1Description: Manufacturer URL; ComponentLink1URL: http://www.national.com/; ComponentLink2Description: LM111 Datasheet; ComponentLink2URL: http://www.national.com/ds/LM/LM111.pdf; ComponentLink3Description: LM111 Web Page; ComponentLink3URL: http://www.national.com/pf/LM/LM111.html; ComponentLink4Description: H08C Package Page; ComponentLink4URL: http://www.national.com/packaging/folders/h08c.html
footprint H08C (Can; 8 Leads; Pin Circle Dia. 5.08 mm; Lead Dia. 0.48 mm (max))
pins: 1 GND (power), 2 IN+ (in), 3 IN- (in), 4 V- (power), 5 BAL, 6 BAL/STB, 7 OUT (out), 8 V+ (power)

## LM111H/883
designator U?
Voltage Comparator, 8-pin TO-99; PartNumber: LM111H/883; Manufacturer: National Semiconductor; PackageTopMarking: NSZSSXXYYA LM111H/883 Q; PowerWise: N; CompType: Amplifiers; High-Reliability: Y; DatasheetVersion: Jan-2001; PackageVersion: revF, Jun-1995; PackageReference: H08C; PackageDescription: Metal Can, TO-99, 8 Lead, .200 Dia., P.C.; RoHS: N; PinCount: 8; Code_JEDEC: TO-99; ComponentLink1Description: Manufacturer URL; ComponentLink1URL: http://www.national.com/; ComponentLink2Description: LM111 Datasheet; ComponentLink2URL: http://www.national.com/ds/LM/LM111QML.pdf; ComponentLink3Description: LM111 Web Page; ComponentLink3URL: http://www.national.com/pf/LM/LM111.html; ComponentLink4Description: H08C Package Page; ComponentLink4URL: http://www.national.com/packaging/folders/h08c.html
footprint H08C (Can; 8 Leads; Pin Circle Dia. 5.08 mm; Lead Dia. 0.48 mm (max))
pins: 1 GND (power), 2 IN+ (in), 3 IN- (in), 4 V- (power), 5 BAL, 6 BAL/STB, 7 OUT (out), 8 V+ (power)

## LM111HLQMLV
designator U?
Voltage Comparator, 8-pin TO-99; PartNumber: LM111HLQMLV; Manufacturer: National Semiconductor; PackageTopMarking: NSZSSXXYYA*LM111HLQV Q 5962L0052401VGA; PowerWise: N; CompType: Amplifiers; High-Reliability: Y; DatasheetVersion: Jan-2001; PackageVersion: revF, Jun-1995; PackageReference: H08C; PackageDescription: Metal Can, TO-99, 8 Lead, .200 Dia., P.C.; RoHS: N; PinCount: 8; Code_JEDEC: TO-99; ComponentLink1Description: Manufacturer URL; ComponentLink1URL: http://www.national.com/; ComponentLink2Description: LM111 Datasheet; ComponentLink2URL: http://www.national.com/ds/LM/LM111QML.pdf; ComponentLink3Description: LM111 Web Page; ComponentLink3URL: http://www.national.com/pf/LM/LM111.html; ComponentLink4Description: H08C Package Page; ComponentLink4URL: http://www.national.com/packaging/folders/h08c.html
footprint H08C (Can; 8 Leads; Pin Circle Dia. 5.08 mm; Lead Dia. 0.48 mm (max))
pins: 1 GND (power), 2 IN+ (in), 3 IN- (in), 4 V- (power), 5 BAL, 6 BAL/STB, 7 OUT (out), 8 V+ (power)

## LM111HRLQMLV
designator U?
Voltage Comparator, 8-pin TO-99; PartNumber: LM111HRLQMLV; Manufacturer: National Semiconductor; PackageTopMarking: NSZSSXXYYA*LM111HRLQV Q 5962R0052402VGA; PowerWise: N; CompType: Amplifiers; High-Reliability: Y; DatasheetVersion: Jan-2001; PackageVersion: revF, Jun-1995; PackageReference: H08C; PackageDescription: Metal Can, TO-99, 8 Lead, .200 Dia., P.C.; RoHS: N; PinCount: 8; Code_JEDEC: TO-99; ComponentLink1Description: Manufacturer URL; ComponentLink1URL: http://www.national.com/; ComponentLink2Description: LM111 Datasheet; ComponentLink2URL: http://www.national.com/ds/LM/LM111QML.pdf; ComponentLink3Description: LM111 Web Page; ComponentLink3URL: http://www.national.com/pf/LM/LM111.html; ComponentLink4Description: H08C Package Page; ComponentLink4URL: http://www.national.com/packaging/folders/h08c.html
footprint H08C (Can; 8 Leads; Pin Circle Dia. 5.08 mm; Lead Dia. 0.48 mm (max))
pins: 1 GND (power), 2 IN+ (in), 3 IN- (in), 4 V- (power), 5 BAL, 6 BAL/STB, 7 OUT (out), 8 V+ (power)

## LM111J-8
designator U?
Voltage Comparator, 8-pin CerDIP; PartNumber: LM111J-8; Manufacturer: National Semiconductor; PackageTopMarking: NSUZXYTT*LM111J*-8; PowerWise: N; CompType: Amplifiers; High-Reliability: Y; DatasheetVersion: Jan-2001; PackageVersion: revM, Jul-2002; PackageReference: J08A; PackageDescription: Cerdip, .400 x .310in Body, 8 Lead, .300in Centers, .100in Pitch; RoHS: N; PinCount: 8; ComponentLink1Description: Manufacturer URL; ComponentLink1URL: http://www.national.com/; ComponentLink2Description: LM111 Datasheet; ComponentLink2URL: http://www.national.com/ds/LM/LM111.pdf; ComponentLink3Description: LM111 Web Page; ComponentLink3URL: http://www.national.com/pf/LM/LM111.html; ComponentLink4Description: J08A Package Page; ComponentLink4URL: http://www.national.com/packaging/folders/j08a.html
footprint J08A (DIP, 8-Leads, Row Spacing 7.62mm, Pitch 2.54mm, Body 9.78x6.73mm)
pins: 1 GND (power), 2 IN+ (in), 3 IN- (in), 4 V- (power), 5 BAL, 6 BAL/STB, 7 OUT (out), 8 V+ (power)

## LM111J-8/883
designator U?
Voltage Comparator, 8-pin CerDIP; PartNumber: LM111J-8/883; Manufacturer: National Semiconductor; PackageTopMarking: NSZSSXXYYA*LM111J-8*/883 Q; PowerWise: N; CompType: Amplifiers; High-Reliability: Y; DatasheetVersion: Jan-2001; PackageVersion: revM, Jul-2002; PackageReference: J08A; PackageDescription: Cerdip, .400 x .310in Body, 8 Lead, .300in Centers, .100in Pitch; RoHS: N; PinCount: 8; ComponentLink1Description: Manufacturer URL; ComponentLink1URL: http://www.national.com/; ComponentLink2Description: LM111 Datasheet; ComponentLink2URL: http://www.national.com/ds/LM/LM111QML.pdf; ComponentLink3Description: LM111 Web Page; ComponentLink3URL: http://www.national.com/pf/LM/LM111.html; ComponentLink4Description: J08A Package Page; ComponentLink4URL: http://www.national.com/packaging/folders/j08a.html
footprint J08A (DIP, 8-Leads, Row Spacing 7.62mm, Pitch 2.54mm, Body 9.78x6.73mm)
pins: 1 GND (power), 2 IN+ (in), 3 IN- (in), 4 V- (power), 5 BAL, 6 BAL/STB, 7 OUT (out), 8 V+ (power)

## LM111J-8LQMLV
designator U?
Voltage Comparator, 8-pin CerDIP; PartNumber: LM111J-8LQMLV; Manufacturer: National Semiconductor; PackageTopMarking: NSZSSXXYYA*LM111J-8L*QV Q 5962L*0052401VPA; PowerWise: N; CompType: Amplifiers; High-Reliability: Y; DatasheetVersion: Jan-2001; PackageVersion: revM, Jul-2002; PackageReference: J08A; PackageDescription: Cerdip, .400 x .310in Body, 8 Lead, .300in Centers, .100in Pitch; RoHS: N; PinCount: 8; ComponentLink1Description: Manufacturer URL; ComponentLink1URL: http://www.national.com/; ComponentLink2Description: LM111 Datasheet; ComponentLink2URL: http://www.national.com/ds/LM/LM111QML.pdf; ComponentLink3Description: LM111 Web Page; ComponentLink3URL: http://www.national.com/pf/LM/LM111.html; ComponentLink4Description: J08A Package Page; ComponentLink4URL: http://www.national.com/packaging/folders/j08a.html
footprint J08A (DIP, 8-Leads, Row Spacing 7.62mm, Pitch 2.54mm, Body 9.78x6.73mm)
pins: 1 GND (power), 2 IN+ (in), 3 IN- (in), 4 V- (power), 5 BAL, 6 BAL/STB, 7 OUT (out), 8 V+ (power)

## LM111J-8RLQMLV
designator U?
Voltage Comparator, 8-pin CerDIP; PartNumber: LM111J-8RLQMLV; Manufacturer: National Semiconductor; PackageTopMarking: NSZSSXXYYA*LM111J-8RL*QV Q 5962R*0052402VPA; PowerWise: N; CompType: Amplifiers; High-Reliability: Y; DatasheetVersion: Jan-2001; PackageVersion: revM, Jul-2002; PackageReference: J08A; PackageDescription: Cerdip, .400 x .310in Body, 8 Lead, .300in Centers, .100in Pitch; RoHS: N; PinCount: 8; ComponentLink1Description: Manufacturer URL; ComponentLink1URL: http://www.national.com/; ComponentLink2Description: LM111 Datasheet; ComponentLink2URL: http://www.national.com/ds/LM/LM111QML.pdf; ComponentLink3Description: LM111 Web Page; ComponentLink3URL: http://www.national.com/pf/LM/LM111.html; ComponentLink4Description: J08A Package Page; ComponentLink4URL: http://www.national.com/packaging/folders/j08a.html
footprint J08A (DIP, 8-Leads, Row Spacing 7.62mm, Pitch 2.54mm, Body 9.78x6.73mm)
pins: 1 GND (power), 2 IN+ (in), 3 IN- (in), 4 V- (power), 5 BAL, 6 BAL/STB, 7 OUT (out), 8 V+ (power)

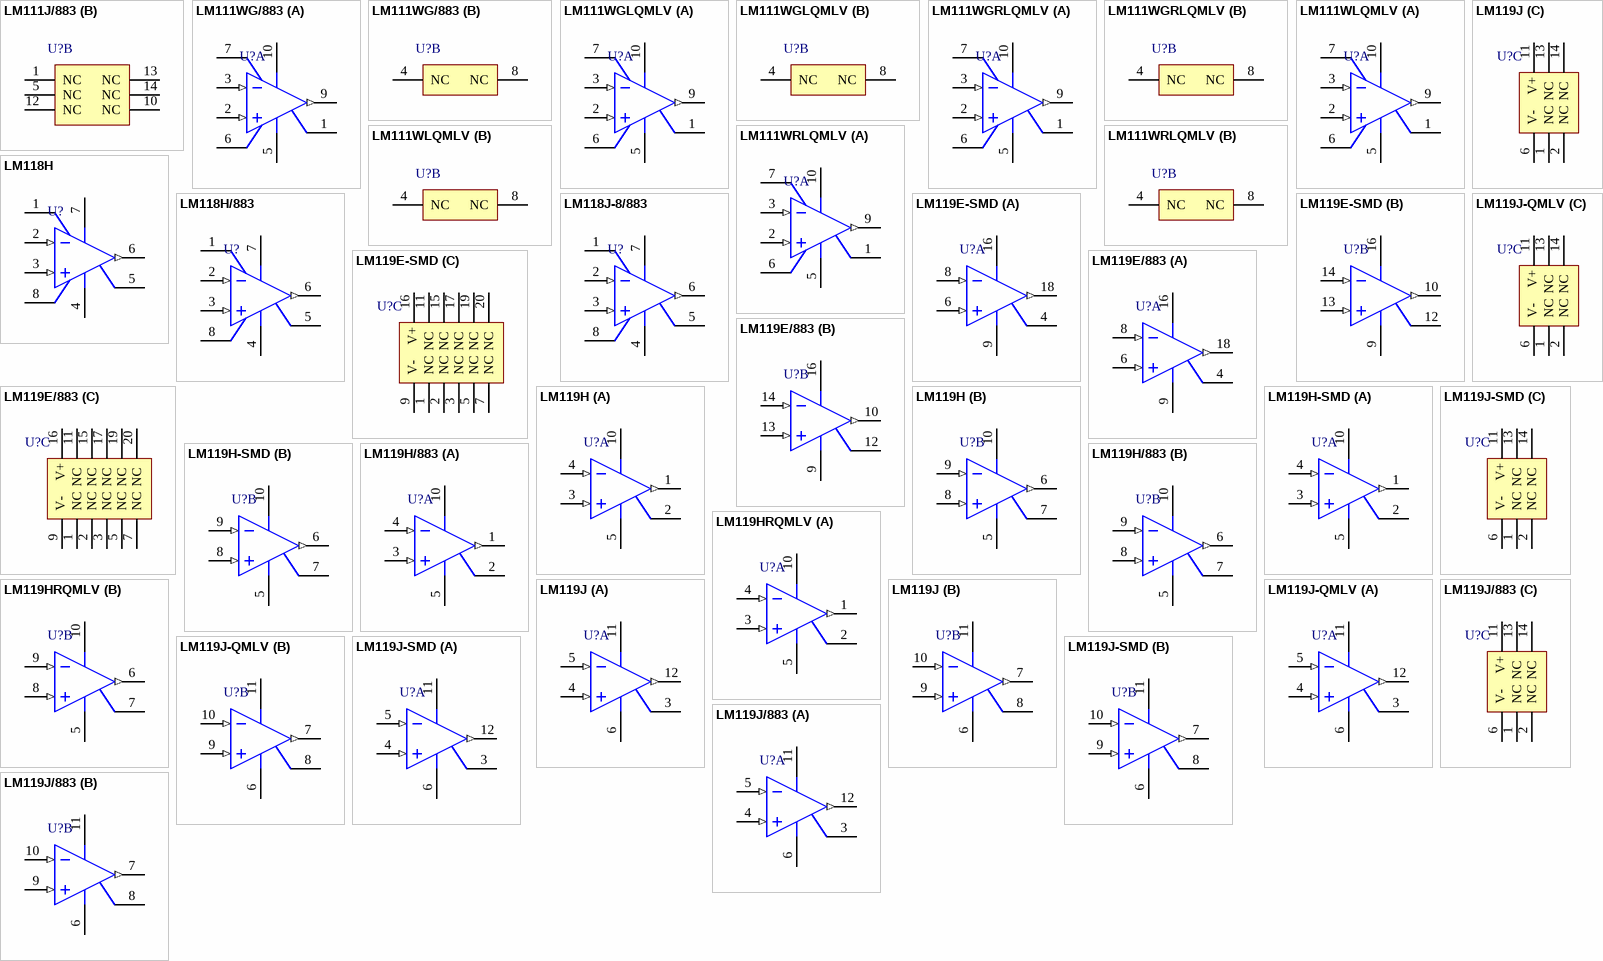
[diagram p4: symbols LM111J/883 to LM119J/883]

## LM111J/883
designator U?
Voltage Comparator, 14-pin CerDIP; PartNumber: LM111J/883; Manufacturer: National Semiconductor; PackageTopMarking: NSZSSXXYYA*LM111J/883 Q; PowerWise: N; CompType: Amplifiers; High-Reliability: Y; DatasheetVersion: Jan-2001; PackageVersion: revJ, Jul-2002; PackageReference: J14A; PackageDescription: Cerdip, .400 x .310in Body, 14 Lead, .300in Centers, .100in Pitch; RoHS: N; PinCount: 14; ComponentLink1Description: Manufacturer URL; ComponentLink1URL: http://www.national.com/; ComponentLink2Description: LM111 Datasheet; ComponentLink2URL: http://www.national.com/ds/LM/LM111QML.pdf; ComponentLink3Description: LM111 Web Page; ComponentLink3URL: http://www.national.com/pf/LM/LM111.html; ComponentLink4Description: J14A Package Page; ComponentLink4URL: http://www.national.com/packaging/folders/j14a.html
footprint J14A (DIP, 14-Leads, Row Spacing 7.62mm, Pitch 2.54mm, Body 19.56x6.73mm)
part A pins: 2 GND (power), 3 IN+ (in), 4 IN- (in), 6 V- (power), 7 BAL, 8 BAL/STB, 9 OUT (out), 11 V+ (power)
part B pins: 1 NC, 5 NC, 10 NC, 12 NC, 13 NC, 14 NC

## LM111WG/883
designator U?
Voltage Comparator, 10-pin CerPACK; PartNumber: LM111WG/883; Manufacturer: National Semiconductor; PackageTopMarking: NS*LM111WG*/883 Q*ZSSXXYYA; PowerWise: N; CompType: Amplifiers; High-Reliability: Y; DatasheetVersion: Jan-2001; PackageVersion: revF, Oct-2008; PackageReference: WG10A; PackageDescription: Cerpack, .270 x .241 x .070in, 10 Lead, .050in Pitch, Gull Wing; RoHS: N; PinCount: 10; ComponentLink1Description: Manufacturer URL; ComponentLink1URL: http://www.national.com/; ComponentLink2Description: LM111 Datasheet; ComponentLink2URL: http://www.national.com/ds/LM/LM111QML.pdf; ComponentLink3Description: LM111 Web Page; ComponentLink3URL: http://www.national.com/pf/LM/LM111.html; ComponentLink4Description: WG10A Package Page; ComponentLink4URL: http://www.national.com/packaging/folders/wg10a.html
footprint WG10A_N (CERPACK, 10-Leads, Body 6.9x6.3mm, Pitch 1.27mm, IPC Medium Density)
footprint WG10A_L (CERPACK, 10-Leads, Body 6.9x6.3mm, Pitch 1.27mm, IPC High Density)
footprint WG10A_M (CERPACK, 10-Leads, Body 6.9x6.3mm, Pitch 1.27mm, IPC Low Density)
part A pins: 1 GND (power), 2 IN+ (in), 3 IN- (in), 5 V- (power), 6 BAL, 7 BAL/STB, 9 OUT (out), 10 V+ (power)
part B pins: 4 NC, 8 NC

## LM111WGLQMLV
designator U?
Voltage Comparator, 10-pin CerPACK; PartNumber: LM111WGLQMLV; Manufacturer: National Semiconductor; PackageTopMarking: NSLM111W*GLQV Q*5962L005*2401VZA*ZSSXXYYA; PowerWise: N; CompType: Amplifiers; High-Reliability: Y; DatasheetVersion: Jan-2001; PackageVersion: revF, Oct-2008; PackageReference: WG10A; PackageDescription: Cerpack, .270 x .241 x .070in, 10 Lead, .050in Pitch, Gull Wing; RoHS: N; PinCount: 10; ComponentLink1Description: Manufacturer URL; ComponentLink1URL: http://www.national.com/; ComponentLink2Description: LM111 Datasheet; ComponentLink2URL: http://www.national.com/ds/LM/LM111QML.pdf; ComponentLink3Description: LM111 Web Page; ComponentLink3URL: http://www.national.com/pf/LM/LM111.html; ComponentLink4Description: WG10A Package Page; ComponentLink4URL: http://www.national.com/packaging/folders/wg10a.html
footprint WG10A_N (CERPACK, 10-Leads, Body 6.9x6.3mm, Pitch 1.27mm, IPC Medium Density)
footprint WG10A_L (CERPACK, 10-Leads, Body 6.9x6.3mm, Pitch 1.27mm, IPC High Density)
footprint WG10A_M (CERPACK, 10-Leads, Body 6.9x6.3mm, Pitch 1.27mm, IPC Low Density)
part A pins: 1 GND (power), 2 IN+ (in), 3 IN- (in), 5 V- (power), 6 BAL, 7 BAL/STB, 9 OUT (out), 10 V+ (power)
part B pins: 4 NC, 8 NC

## LM111WGRLQMLV
designator U?
Voltage Comparator, 10-pin CerPACK; PartNumber: LM111WGRLQMLV; Manufacturer: National Semiconductor; PackageTopMarking: NSLM111W*GRLQV Q*5962R005*2402VZA*ZSSXXYYA; PowerWise: N; CompType: Amplifiers; High-Reliability: Y; DatasheetVersion: Jan-2001; PackageVersion: revF, Oct-2008; PackageReference: WG10A; PackageDescription: Cerpack, .270 x .241 x .070in, 10 Lead, .050in Pitch, Gull Wing; RoHS: N; PinCount: 10; ComponentLink1Description: Manufacturer URL; ComponentLink1URL: http://www.national.com/; ComponentLink2Description: LM111 Datasheet; ComponentLink2URL: http://www.national.com/ds/LM/LM111QML.pdf; ComponentLink3Description: LM111 Web Page; ComponentLink3URL: http://www.national.com/pf/LM/LM111.html; ComponentLink4Description: WG10A Package Page; ComponentLink4URL: http://www.national.com/packaging/folders/wg10a.html
footprint WG10A_N (CERPACK, 10-Leads, Body 6.9x6.3mm, Pitch 1.27mm, IPC Medium Density)
footprint WG10A_L (CERPACK, 10-Leads, Body 6.9x6.3mm, Pitch 1.27mm, IPC High Density)
footprint WG10A_M (CERPACK, 10-Leads, Body 6.9x6.3mm, Pitch 1.27mm, IPC Low Density)
part A pins: 1 GND (power), 2 IN+ (in), 3 IN- (in), 5 V- (power), 6 BAL, 7 BAL/STB, 9 OUT (out), 10 V+ (power)
part B pins: 4 NC, 8 NC

## LM111WLQMLV
designator U?
Voltage Comparator, 10-pin CerPACK; PartNumber: LM111WLQMLV; Manufacturer: National Semiconductor; PackageTopMarking: NSLM111W*LQV Q*ZSSXXYYA*5962L005*2401VHA; PowerWise: N; CompType: Amplifiers; High-Reliability: Y; DatasheetVersion: Jan-2001; PackageVersion: revH, Sep-2003; PackageReference: W10A; PackageDescription: Cerpack, .270 x .241 x .067in Body, 10 Lead, .050in Pitch; RoHS: N; PinCount: 10; Code_JEDEC: MS-033-AA; ComponentLink1Description: Manufacturer URL; ComponentLink1URL: http://www.national.com/; ComponentLink2Description: LM111 Datasheet; ComponentLink2URL: http://www.national.com/ds/LM/LM111QML.pdf; ComponentLink3Description: LM111 Web Page; ComponentLink3URL: http://www.national.com/pf/LM/LM111.html; ComponentLink4Description: W10A Package Page; ComponentLink4URL: http://www.national.com/packaging/folders/w10a.html
footprint W10A (DFP; 10 Leads; Body 6.9 x 6.9 mm (LxW max); Pitch 1.27 mm)
part A pins: 1 GND (power), 2 IN+ (in), 3 IN- (in), 5 V- (power), 6 BAL, 7 BAL/STB, 9 OUT (out), 10 V+ (power)
part B pins: 4 NC, 8 NC

## LM111WRLQMLV
designator U?
Voltage Comparator, 10-pin CerPACK; PartNumber: LM111WRLQMLV; Manufacturer: National Semiconductor; PackageTopMarking: NSLM111W*RLQV Q*ZSSXXYYA*5962R005*2402VHA; PowerWise: N; CompType: Amplifiers; High-Reliability: Y; DatasheetVersion: Jan-2001; PackageVersion: revH, Sep-2003; PackageReference: W10A; PackageDescription: Cerpack, .270 x .241 x .067in Body, 10 Lead, .050in Pitch; RoHS: N; PinCount: 10; Code_JEDEC: MS-033-AA; ComponentLink1Description: Manufacturer URL; ComponentLink1URL: http://www.national.com/; ComponentLink2Description: LM111 Datasheet; ComponentLink2URL: http://www.national.com/ds/LM/LM111QML.pdf; ComponentLink3Description: LM111 Web Page; ComponentLink3URL: http://www.national.com/pf/LM/LM111.html; ComponentLink4Description: W10A Package Page; ComponentLink4URL: http://www.national.com/packaging/folders/w10a.html
footprint W10A (DFP; 10 Leads; Body 6.9 x 6.9 mm (LxW max); Pitch 1.27 mm)
part A pins: 1 GND (power), 2 IN+ (in), 3 IN- (in), 5 V- (power), 6 BAL, 7 BAL/STB, 9 OUT (out), 10 V+ (power)
part B pins: 4 NC, 8 NC

## LM118H
designator U?
Operational Amplifier, 8-pin TO-99; PartNumber: LM118H; Manufacturer: National Semiconductor; PackageTopMarking: NSZXYTTE# LM118H; PowerWise: N; CompType: Amplifiers; High-Reliability: Y; DatasheetVersion: Aug-2000; PackageVersion: revF, Jun-1995; PackageReference: H08C; PackageDescription: Metal Can, TO-99, 8 Lead, .200 Dia., P.C.; RoHS: N; PinCount: 8; Code_JEDEC: TO-99; ComponentLink1Description: Manufacturer URL; ComponentLink1URL: http://www.national.com/; ComponentLink2Description: LM118 Datasheet; ComponentLink2URL: http://www.national.com/ds/LM/LM118.pdf; ComponentLink3Description: LM118 Web Page; ComponentLink3URL: http://www.national.com/pf/LM/LM118.html; ComponentLink4Description: H08C Package Page; ComponentLink4URL: http://www.national.com/packaging/folders/h08c.html
footprint H08C (Can; 8 Leads; Pin Circle Dia. 5.08 mm; Lead Dia. 0.48 mm (max))
pins: 1 BAL/COMP1, 2 IN- (in), 3 IN+ (in), 4 V- (power), 5 BAL/COMP3, 6 OUT (out), 7 V+ (power), 8 COMP2

## LM118H/883
designator U?
Operational Amplifier, 8-pin TO-99; PartNumber: LM118; Manufacturer: National Semiconductor; PackageTopMarking: NSZSSXXYYA LM118H/883 Q; PowerWise: N; CompType: Amplifiers; High-Reliability: Y; DatasheetVersion: Aug-2000; PackageVersion: revF, Jun-1995; PackageReference: H08C; PackageDescription: Metal Can, TO-99, 8 Lead, .200 Dia., P.C.; RoHS: N; PinCount: 8; Code_JEDEC: TO-99; ComponentLink1Description: Manufacturer URL; ComponentLink1URL: http://www.national.com/; ComponentLink2Description: LM118 Datasheet; ComponentLink2URL: http://www.national.com/ds/LM/LM118QML.pdf; ComponentLink3Description: LM118 Web Page; ComponentLink3URL: http://www.national.com/pf/LM/LM118.html; ComponentLink4Description: H08C Package Page; ComponentLink4URL: http://www.national.com/packaging/folders/h08c.html
footprint H08C (Can; 8 Leads; Pin Circle Dia. 5.08 mm; Lead Dia. 0.48 mm (max))
pins: 1 BAL/COMP1, 2 IN- (in), 3 IN+ (in), 4 V- (power), 5 BAL/COMP3, 6 OUT (out), 7 V+ (power), 8 COMP2